# EAGLE library part HDR-2X23-F (library Mechanical)
Female 2x23 Header
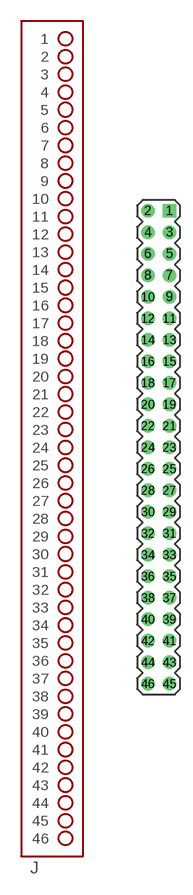
[diagram p72: symbol with the pads of HDR-2X23-F; footprint HDR-2X23-F]

Designator prefix J

## HDR-2X23-F  [HDR-2X23-F]
1  1  pas
2  2  pas
3  3  pas
4  4  pas
5  5  pas
6  6  pas
7  7  pas
8  8  pas
9  9  pas
10  10  pas
11  11  pas
12  12  pas
13  13  pas
14  14  pas
15  15  pas
16  16  pas
17  17  pas
18  18  pas
19  19  pas
20  20  pas
21  21  pas
22  22  pas
23  23  pas
24  24  pas
25  25  pas
26  26  pas
27  27  pas
28  28  pas
29  29  pas
30  30  pas
31  31  pas
32  32  pas
33  33  pas
34  34  pas
35  35  pas
36  36  pas
37  37  pas
38  38  pas
39  39  pas
40  40  pas
41  41  pas
42  42  pas
43  43  pas
44  44  pas
45  45  pas
46  46  pas

## Footprint HDR-2X23-F (pad centres in mm)
Female 2X23 Header
drill 1.067 square: 1 1.27,27.94
drill 1.067: 2 -1.27,27.94; 3 1.27,25.4; 4 -1.27,25.4; 5 1.27,22.86; 6 -1.27,22.86; 7 1.27,20.32; 8 -1.27,20.32; 9 1.27,17.78; 10 -1.27,17.78; 11 1.27,15.24; 12 -1.27,15.24; 13 1.27,12.7; 14 -1.27,12.7; 15 1.27,10.16; 16 -1.27,10.16; 17 1.27,7.62; 18 -1.27,7.62; 19 1.27,5.08; 20 -1.27,5.08; 21 1.27,2.54; 22 -1.27,2.54; 23 1.27,0; 24 -1.27,0; 25 1.27,-2.54; 26 -1.27,-2.54; 27 1.27,-5.08; 28 -1.27,-5.08; 29 1.27,-7.62; 30 -1.27,-7.62; 31 1.27,-10.16; 32 -1.27,-10.16; 33 1.27,-12.7; 34 -1.27,-12.7; 35 1.27,-15.24; 36 -1.27,-15.24; 37 1.27,-17.78; 38 -1.27,-17.78; 39 1.27,-20.32; 40 -1.27,-20.32; 41 1.27,-22.86; 42 -1.27,-22.86; 43 1.27,-25.4; 44 -1.27,-25.4; 45 1.27,-27.94; 46 -1.27,-27.94